# Altium schematic symbol library QD3222_18P.SCHLIB: 1 symbol
Pins are listed as number, name and electrical type; pins without a type are passive.

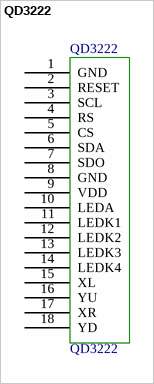
[diagram p0: symbol QD3222]

## QD3222
designator QD3222
footprint QD-TFT3202
pins: 1 GND, 2 RESET, 3 SCL, 4 RS, 5 CS, 6 SDA, 7 SDO, 8 GND, 9 VDD, 10 LEDA, 11 LEDK1, 12 LEDK2, 13 LEDK3, 14 LEDK4, 15 XL, 16 YU, 17 XR, 18 YD